# Altium schematic symbol library upbracing_library.SchLib: 157 symbols
Pins are listed as number, name and electrical type; pins without a type are passive.

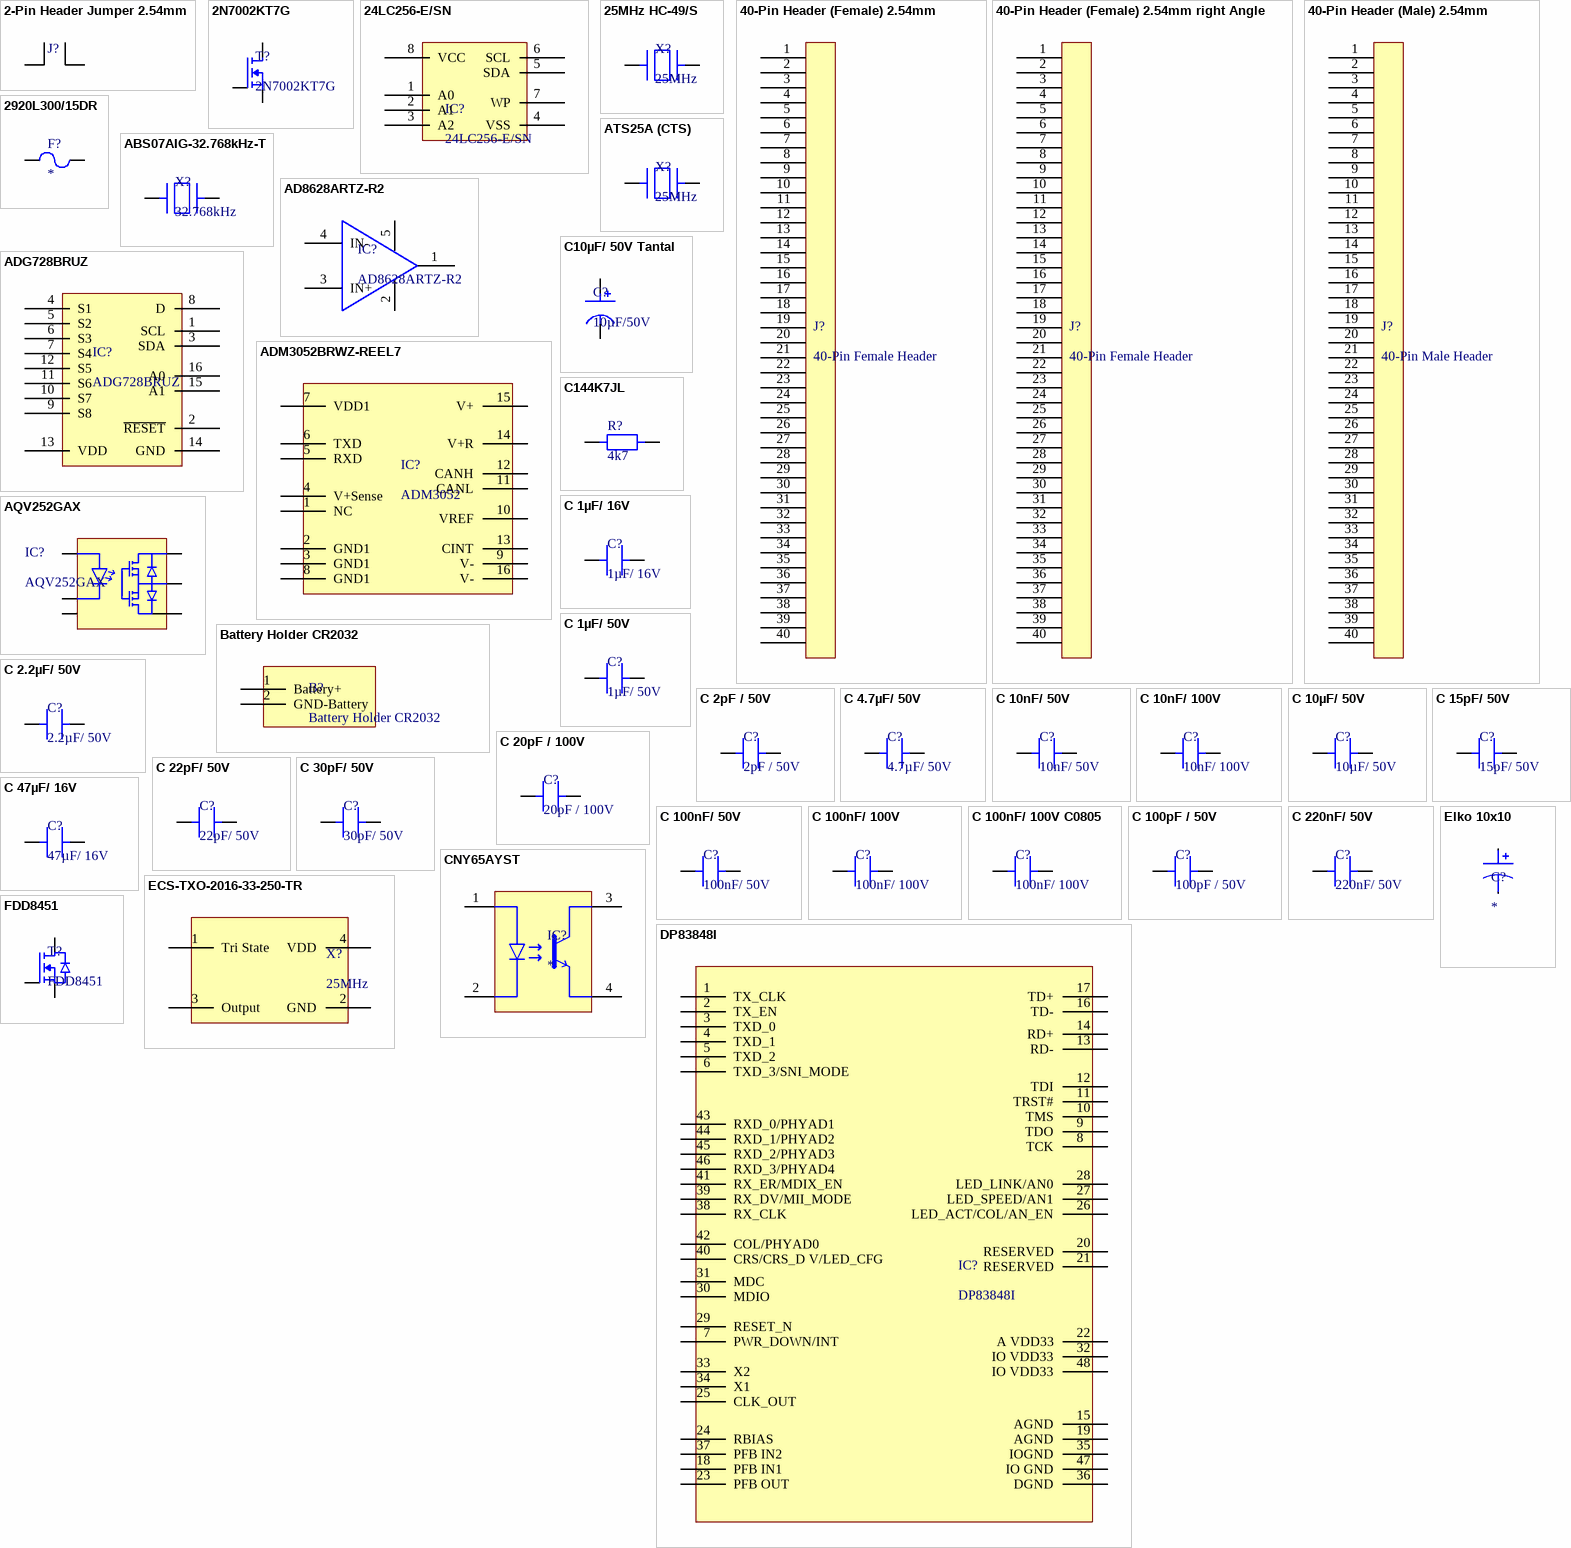
[diagram p0: symbols 2-Pin Header Jumper 2.54mm to FDD8451]

## 2-Pin Header Jumper 2.54mm
designator J?, comment 90131-1081  (value not drawn)
2Pin, 2,54mm
footprint 2-Pin Header Jumper 2.54mm (2Pin, 2.54mm)
pins: 1, 2

## 2N7002KT7G
designator T?
NMOS 100mA, 60V V_DS, R_DS,ON 2 Ohm, V_GSmax 20V
footprint SOT23-3 (SOT23, 3-Leads, Body 2,90x2,35mm, Pitch 0,95mm, IPC Medium Density)
pins: 1 G, 2 S, 3 D

## 24LC256-E/SN
designator IC?
EEPROM I2C, Microchip
footprint SOIC-8
pins: 1 A0, 2 A1, 3 A2, 4 VSS, 5 SDA, 6 SCL, 7 WP, 8 VCC

## 25MHz HC-49/S
designator X?, comment 25MHz
HC-49/S
footprint HC-49/S
pins: 1, 2

## 40-Pin Header (Female) 2.54mm
designator J?, comment 40-Pin Female Header
40-Pin Header (Female) 2.54mm; 2 x Row
footprint SSW-120-01-T-D SAMTEC (Female Pitch 2.54mm)
pins: 1, 2, 3, 4, 5, 6, 7, 8, 9, 10, 11, 12, 13, 14, 15, 16, 17, 18, 19, 20, 21, 22, 23, 24, 25, 26, 27, 28, 29, 30, 31, 32, 33, 34, 35, 36, 37, 38, 39, 40

## 40-Pin Header (Female) 2.54mm right Angle
designator J?, comment 40-Pin Female Header
40-Pin Header (Female) 2.54mm; 2 x Row, right Angle, SSW-120-02-T-D-RA-N
footprint SSW-120-02-T-D-RA-N SAMTEC (Female Pitch 2.54mm right angle)
pins: 1, 2, 3, 4, 5, 6, 7, 8, 9, 10, 11, 12, 13, 14, 15, 16, 17, 18, 19, 20, 21, 22, 23, 24, 25, 26, 27, 28, 29, 30, 31, 32, 33, 34, 35, 36, 37, 38, 39, 40

## 40-Pin Header (Male) 2.54mm
designator J?, comment 40-Pin Male Header
40-Pin Header (Male) 2.54mm; 2 x Row
footprint DIP40 Pitch 2.54mm
pins: 1, 2, 3, 4, 5, 6, 7, 8, 9, 10, 11, 12, 13, 14, 15, 16, 17, 18, 19, 20, 21, 22, 23, 24, 25, 26, 27, 28, 29, 30, 31, 32, 33, 34, 35, 36, 37, 38, 39, 40

## 2920L300/15DR
designator F?
PTC RESET FUSE 15V 3A 2920; Manufacturer 1: Littelfuse; Manufacturer Part Number 1: 2920L300/15DR; Max Current Rating: 40A; Trip Current: 5A; Time to Trip: 20s; Resistance: 48mR; Power Dissipation: 1.5W; Approvals: cULus; Supplier 1: Digi-Key; Stock 1: 4411; Pricing 1: 1=0,87000, 5=0,83800, 10=0,78500, 50=0,64940, 100=0,54120, 250=0,52768, 500=0,44650 (USD); RoHS: Yes; Case/Package: 2920; Case Code (Metric): 7351; Case Code (Imperial): 2920; Min Operating Temperature: -40°C; Max Operating Temperature: 85°C; Hold Current: 3A; Packaging: Tape and Reel; Termination: SMD/SMT; Package Quantity: 1500; Voltage Rating (DC): 15V; Current Rating: 40A; Operating Supply Voltage: 15V; Max Voltage Rating (DC): 15V; Working Voltage: 15V; Length: 7.36mm; Lead Free: Lead Free; REACH SVHC: No SVHC; ComponentLink1URL: https://datasheet.ciiva.com/1273/578244-1273824.pdf?src-supplier=Element14; ComponentLink1Description: https://datasheet.ciiva.com/1273/578244-1273824.pdf?src-supplier=Element14; ComponentLink2URL: https://datasheet.ciiva.com/28411/littelfuse-2920l-28411001.pdf?src-supplier=Element14; ComponentLink2Description: https://datasheet.ciiva.com/28411/littelfuse-2920l-28411001.pdf?src-supplier=Element14; ComponentLink3URL: https://datasheet.ciiva.com/326/littelfuse-ptc-2920l-326027.pdf?src-supplier=Digi-Key; ComponentLink3Description: https://datasheet.ciiva.com/326/littelfuse-ptc-2920l-326027.pdf?src-supplier=Digi-Key; ComponentLink4URL: https://datasheet.ciiva.com/326/littelfuse-ptc-2920l-326028.pdf?src-supplier=Digi-Key; ComponentLink4Description: https://datasheet.ciiva.com/326/littelfuse-ptc-2920l-326028.pdf?src-supplier=Digi-Key; ComponentLink5URL: https://datasheet.ciiva.com/326/littelfuse-ptc-2920l-326029.pdf?src-supplier=Digi-Key; ComponentLink5Description: https://datasheet.ciiva.com/326/littelfuse-ptc-2920l-326029.pdf?src-supplier=Digi-Key
footprint 2920_Littlefuse
pins: 1, 2

## ABS07AIG-32.768kHz-T
designator X?, comment 32.768kHz
32.768kHz Crystal, ABS07-166-32.768KHZ-T, 12.5pF
footprint NDK NX3215SA-32.768K-STD-MUA-8
pins: 1, 2

## AD8628ARTZ-R2
designator IC?
Präzisionsverstärker
footprint SOT23-5
pins: 1 OUT, 2 V-, 3 IN+, 4 IN-, 5 V+

## ADG728BRUZ
designator IC?
MUX I2C
footprint TSSOP-16
pins: 1 SCL, 2 ~{RESET}, 3 SDA, 4 S1, 5 S2, 6 S3, 7 S4, 8 D, 9 S8, 10 S7, 11 S6, 12 S5, 13 VDD, 14 GND, 15 A1, 16 A0

## ADM3052BRWZ-REEL7
designator IC?, comment ADM3052
CAN Transceiver Isolated
footprint SOP16 RW16 (ADM3052)
pins: 1 NC, 2 GND1, 3 GND1, 4 V+Sense, 5 RXD, 6 TXD, 7 VDD1, 8 GND1, 9 V-, 10 VREF, 11 CANL, 12 CANH, 13 CINT, 14 V+R, 15 V+, 16 V-

## AQV252GAX
designator IC?
Halbleiter Relais
footprint SMD DIP-6
pins: 1 A, 2 C, 3 NC, 4 D2, 5 S, 6 D1

## ATS25A (CTS)
designator X?, comment 25MHz
25MHz Crystal, 20pF, ATS25A CTS, HC-49/U,
footprint HC-49/U (ATS25A)
pins: 1, 2

## Battery Holder CR2032
designator B?
TE 796136-1
footprint Battery Holder TE 796136-1
pins: 1 Battery+, 2 GND-Battery

## C10µF/ 50V Tantal
designator C?, comment 10µF/50V
Tantal 7343, D-Casing
footprint Tantal 7343
pins: 1, 2

## C144K7JL
designator R?, comment 4k7
Precharge Widerstand
footprint C144K7JL
pins: 1, 2

## C 1µF/ 16V
designator C?, comment 1µF/ 16V
C0603/C0805
footprint C0805
footprint C0603
pins: 1, 2

## C 1µF/ 50V
designator C?, comment 1µF/ 50V
C0805
footprint C0805
pins: 1, 2

## C 2.2µF/ 50V
designator C?, comment 2.2µF/ 50V
C0805
footprint C0805
pins: 1, 2

## C 2pF / 50V
designator C?, comment 2pF / 50V
C0805
footprint C0805
pins: 1, 2

## C 4.7µF/ 50V
designator C?, comment 4.7µF/ 50V
C0805
footprint C0805
pins: 1, 2

## C 10nF/ 50V
designator C?, comment 10nF/ 50V
C1206
footprint C1206
pins: 1, 2

## C 10nF/ 100V
designator C?, comment 10nF/ 100V
C1206
footprint C1206
pins: 1, 2

## C 10µF/ 50V
designator C?, comment 10µF/ 50V
C1210
footprint C1210
pins: 1, 2

## C 15pF/ 50V
designator C?, comment 15pF/ 50V
C0805
footprint C0805
pins: 1, 2

## C 20pF / 100V
designator C?, comment 20pF / 100V
C0805
footprint C0805
pins: 1, 2

## C 22pF/ 50V
designator C?, comment 22pF/ 50V
C0805
footprint C0805
pins: 1, 2

## C 30pF/ 50V
designator C?, comment 30pF/ 50V
C0805
footprint C0805
pins: 1, 2

## C 47µF/ 16V
designator C?, comment 47µF/ 16V
C1210
footprint C1210
pins: 1, 2

## C 100nF/ 50V
designator C?, comment 100nF/ 50V
C0603/C0805
footprint C0805
footprint C0603
pins: 1, 2

## C 100nF/ 100V
designator C?, comment 100nF/ 100V
C1206
footprint C1206
pins: 1, 2

## C 100nF/ 100V C0805
designator C?, comment 100nF/ 100V
C0805
footprint C0805
pins: 1, 2

## C 100pF / 50V
designator C?, comment 100pF / 50V
C0805
footprint C0805
pins: 1, 2

## C 220nF/ 50V
designator C?, comment 220nF/ 50V
C0805
footprint C0805
pins: 1, 2

## CNY65AYST
designator IC?
Optocoupler
footprint CNY65AYST_Optocoupler
pins: 1, 2, 3, 4

## DP83848I
designator IC?
Ethernet IC, PHY, TI DP83848I
footprint LQFP48 (TI DP83848I) (Nochmal Überprüfen!)
pins: 1 TX_CLK, 2 TX_EN, 3 TXD_0, 4 TXD_1, 5 TXD_2, 6 TXD_3/SNI_MODE, 7 PWR_DOWN/INT, 8 TCK, 9 TDO, 10 TMS, 11 TRST#, 12 TDI, 13 RD-, 14 RD+, 15 AGND, 16 TD-, 17 TD+, 18 PFB IN1, 19 AGND, 20 RESERVED, 21 RESERVED, 22 A VDD33, 23 PFB OUT, 24 RBIAS, 25 CLK_OUT, 26 LED_ACT/COL/AN_EN, 27 LED_SPEED/AN1, 28 LED_LINK/AN0, 29 RESET_N, 30 MDIO, 31 MDC, 32 IO VDD33, 33 X2, 34 X1, 35 IOGND, 36 DGND, 37 PFB IN2, 38 RX_CLK, 39 RX_DV/MII_MODE, 40 CRS/CRS_D V/LED_CFG, 41 RX_ER/MDIX_EN, 42 COL/PHYAD0, 43 RXD_0/PHYAD1, 44 RXD_1/PHYAD2, 45 RXD_2/PHYAD3, 46 RXD_3/PHYAD4, 47 IO GND, 48 IO VDD33

## ECS-TXO-2016-33-250-TR
designator X?, comment 25MHz
Oscillator 25MHz
footprint TCXO Oscillators ECS-TXO-2016-1601065
pins: 1 Tri State, 2 GND, 3 Output, 4 VDD

## Elko 10x10
designator C?
footprint Elko 10x10 (Aluminum Electrolytic Capacitor, Body 10,30x10,30x10,00mm, IPC Low Density)
pins: 1 +, 2 -

## FDD8451
designator T?
NMOS
footprint DPAK228P990X238-3N (D-PAK, 3-Pads, Body 6,20x6,72mm (max), IPC Medium Density); pin to pad 2>3 3>4
pins: 1 G, 2 S, 3 D

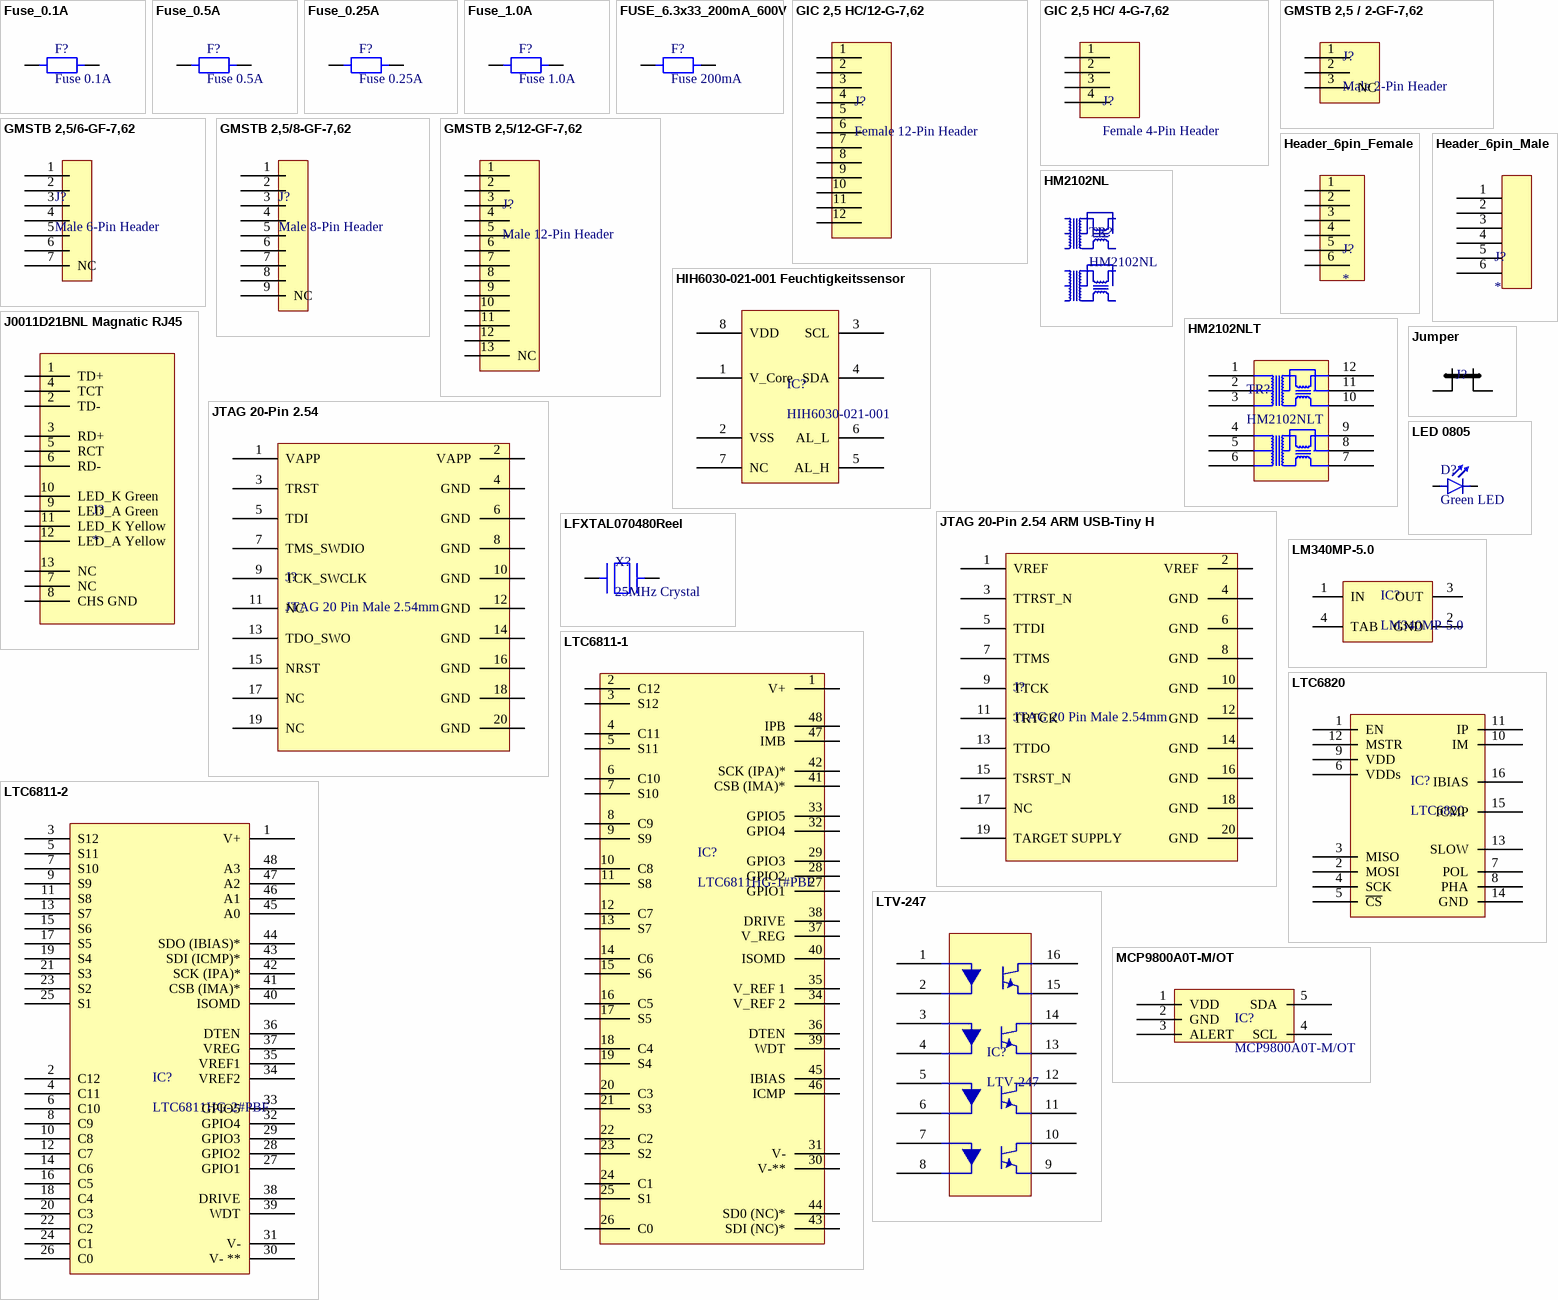
[diagram p1: symbols Fuse_0.1A to MCP9800A0T-M/OT]

## Fuse_0.1A
designator F?, comment Fuse 0.1A
LittleFuse 0451.100MRL
footprint Fuse_SMD-SF 0.25A
pins: 1, 2

## Fuse_0.5A
designator F?, comment Fuse 0.5A
Reichelt : SMD-SF 0,5A
footprint Fuse_SMD-SF 0.25A
pins: 1, 2

## Fuse_0.25A
designator F?, comment Fuse 0.25A
Reichelt : SMD-SF 0,25A
footprint Fuse_SMD-SF 0.25A
pins: 1, 2

## Fuse_1.0A
designator F?, comment Fuse 1.0A
LittleFuse 0451001.NRL
footprint Fuse_SMD-SF 0.25A
pins: 1, 2

## FUSE_6.3x33_200mA_600V
designator F?, comment Fuse 200mA
Fuse: 0ADBC0200-BE / Clips: 8040.0003
footprint FUSE_HOLDER_6.8x33 (0ADBC0200-BE)
pins: 1, 2

## GIC 2,5 HC/12-G-7,62
designator J?, comment Female 12-Pin Header
GIC 2,5 HC/12-G-7,62 -Phoenix 1745881
footprint GIC 2,5 HC/12-G-7,62 - 1745881
pins: 1, 2, 3, 4, 5, 6, 7, 8, 9, 10, 11, 12

## GIC 2,5 HC/ 4-G-7,62
designator J?, comment Female 4-Pin Header
GIC 2,5 HC/ 4-G-7,62
footprint GIC 2,5 HC/ 4-G-7,62 (Phoenix 630V 4pol)
pins: 1, 2, 3, 4

## GMSTB 2,5 / 2-GF-7,62
designator J?, comment Male 2-Pin Header
Do not connect Pin 3! Phoenix 1806229
footprint GMSTB 2,5/ 2-GF-7,62 - 1806229
pins: 1, 2, 3 NC "Not Connect"

## GMSTB 2,5/6-GF-7,62
designator J?, comment Male 6-Pin Header
Do not connect Pin 7, Phoenix 1806261
footprint GMSTB 2,5/6-GF-7,62
pins: 1, 2, 3, 4, 5, 6, 7 NC

## GMSTB 2,5/8-GF-7,62
designator J?, comment Male 8-Pin Header
Do not connect Pin 9! Phoenix 1806287
footprint GMSTB 2,5/ 8-GF-7.62
pins: 1, 2, 3, 4, 5, 6, 7, 8, 9 NC

## GMSTB 2,5/12-GF-7,62
designator J?, comment Male 12-Pin Header
Do not connect Pin 13! Phoenix 1806326
footprint GMSTB 2,5/12-GF-7,62 1806326
pins: 1, 2, 3, 4, 5, 6, 7, 8, 9, 10, 11, 12, 13 NC

## Header_6pin_Female
designator J?
footprint Header_6pin_female
pins: 1, 2, 3, 4, 5, 6

## Header_6pin_Male
designator J?
footprint Header_6pin_male
pins: 1, 2, 3, 4, 5, 6

## HIH6030-021-001 Feuchtigkeitssensor
designator IC?, comment HIH6030-021-001
Feuchtigkeit und Temperatursensor
footprint SOIC-8
pins: 1 V_Core, 2 VSS, 3 SCL, 4 SDA, 5 AL_H, 6 AL_L, 7 NC, 8 VDD

## HM2102NL
designator TR?
Isolations Transformator
footprint SOP12

## HM2102NLT
designator TR?
Isolations Transformator
footprint SOP12
pins: 1, 2, 3, 4, 5, 6, 7, 8, 9, 10, 11, 12

## J0011D21BNL Magnatic RJ45
designator J?
RJ45 Magnatic,
footprint J0011D21BNL (Magnatic RJ45)
pins: 1 TD+, 2 TD-, 3 RD+, 4 TCT, 5 RCT, 6 RD-, 7 NC, 8 CHS GND, 9 LED_A Green, 10 LED_K Green, 11 LED_K Yellow, 12 LED_A Yellow, 13 NC

## JTAG 20-Pin 2.54
designator J?, comment JTAG 20 Pin Male 2.54mm
footprint JTAG 20-Pin
pins: 1 VAPP "Target VCC", 2 VAPP "Target VCC", 3 TRST "JTAG TRST", 4 GND, 5 TDI, 6 GND, 7 TMS_SWDIO, 8 GND, 9 TCK_SWCLK, 10 GND, 11 NC, 12 GND, 13 TDO_SWO, 14 GND, 15 NRST, 16 GND, 17 NC, 18 GND, 19 NC, 20 GND

## JTAG 20-Pin 2.54 ARM USB-Tiny H
designator J?, comment JTAG 20 Pin Male 2.54mm
footprint JTAG 20-Pin
pins: 1 VREF "Target VCC", 2 VREF "Target VCC", 3 TTRST_N "JTAG TRST", 4 GND, 5 TTDI, 6 GND, 7 TTMS, 8 GND, 9 TTCK, 10 GND, 11 TRTCK, 12 GND, 13 TTDO, 14 GND, 15 TSRST_N, 16 GND, 17 NC, 18 GND, 19 TARGET SUPPLY, 20 GND

## Jumper
designator J?, comment 90131-1081  (value not drawn)
2Pin, 2,54mm
footprint Jumper (2Pin, 2.54mm)
pins: 1, 2

## LED 0805
designator D?, comment Green LED
Status LED
footprint LED_0805
pins: 1, 2

## LFXTAL070480Reel
designator X?, comment 25MHz Crystal
LFXTAL070480Reel, HC-49/S, 18pF, ESR 40Ohm, DL = 500µW
footprint HC-49/S
pins: 1, 2

## LM340MP-5.0
designator IC?
Linearregler 12V -> 5V
footprint SOT-223-4
pins: 1 IN (power), 2 GND (power), 3 OUT (power), 4 TAB (power)

## LTC6811-1
designator IC?, comment LTC6811HG-1#PBF
Battery Monitor IC
footprint SSOP48-LTC6811
pins: 1 V+, 2 C12, 3 S12, 4 C11, 5 S11, 6 C10, 7 S10, 8 C9, 9 S9, 10 C8, 11 S8, 12 C7, 13 S7, 14 C6, 15 S6, 16 C5, 17 S5, 18 C4, 19 S4, 20 C3, 21 S3, 22 C2, 23 S2, 24 C1, 25 S1, 26 C0, 27 GPIO1, 28 GPIO2, 29 GPIO3, 30 V-**, 31 V-, 32 GPIO4, 33 GPIO5, 34 V_REF 2, 35 V_REF 1, 36 DTEN, 37 V_REG, 38 DRIVE, 39 WDT, 40 ISOMD, 41 CSB (IMA)*, 42 SCK (IPA)*, 43 SDI (NC)*, 44 SD0 (NC)*, 45 IBIAS, 46 ICMP, 47 IMB, 48 IPB

## LTC6811-2
designator IC?, comment LTC6811HG-2#PBF
Batterie Monitor IC
footprint SSOP48-LTC6811
pins: 1 V+, 2 C12, 3 S12, 4 C11, 5 S11, 6 C10, 7 S10, 8 C9, 9 S9, 10 C8, 11 S8, 12 C7, 13 S7, 14 C6, 15 S6, 16 C5, 17 S5, 18 C4, 19 S4, 20 C3, 21 S3, 22 C2, 23 S2, 24 C1, 25 S1, 26 C0, 27 GPIO1, 28 GPIO2, 29 GPIO3, 30 V- **, 31 V-, 32 GPIO4, 33 GPIO5, 34 VREF2, 35 VREF1, 36 DTEN, 37 VREG, 38 DRIVE, 39 WDT, 40 ISOMD, 41 CSB (IMA)*, 42 SCK (IPA)*, 43 SDI (ICMP)*, 44 SDO (IBIAS)*, 45 A0, 46 A1, 47 A2, 48 A3

## LTC6820
designator IC?
isoSPI IC for BMS Slave, LTC6820HMS#PBF
footprint MSOP-16 (LTC6820)
pins: 1 EN, 2 MOSI, 3 MISO, 4 SCK, 5 ~{CS}, 6 VDDs, 7 POL, 8 PHA, 9 VDD, 10 IM, 11 IP, 12 MSTR, 13 SLOW, 14 GND, 15 ICMP, 16 IBIAS

## LTV-247
designator IC?
Transistor Ausgangsoptokoppler
footprint SOP-16 (LTV-247)
pins: 1, 2, 3, 4, 5, 6, 7, 8, 9, 10, 11, 12, 13, 14, 15, 16

## MCP9800A0T-M/OT
designator IC?
Temperatursensor I2C
footprint SOT-23A-5
pins: 1 VDD, 2 GND, 3 ALERT, 4 SCL, 5 SDA

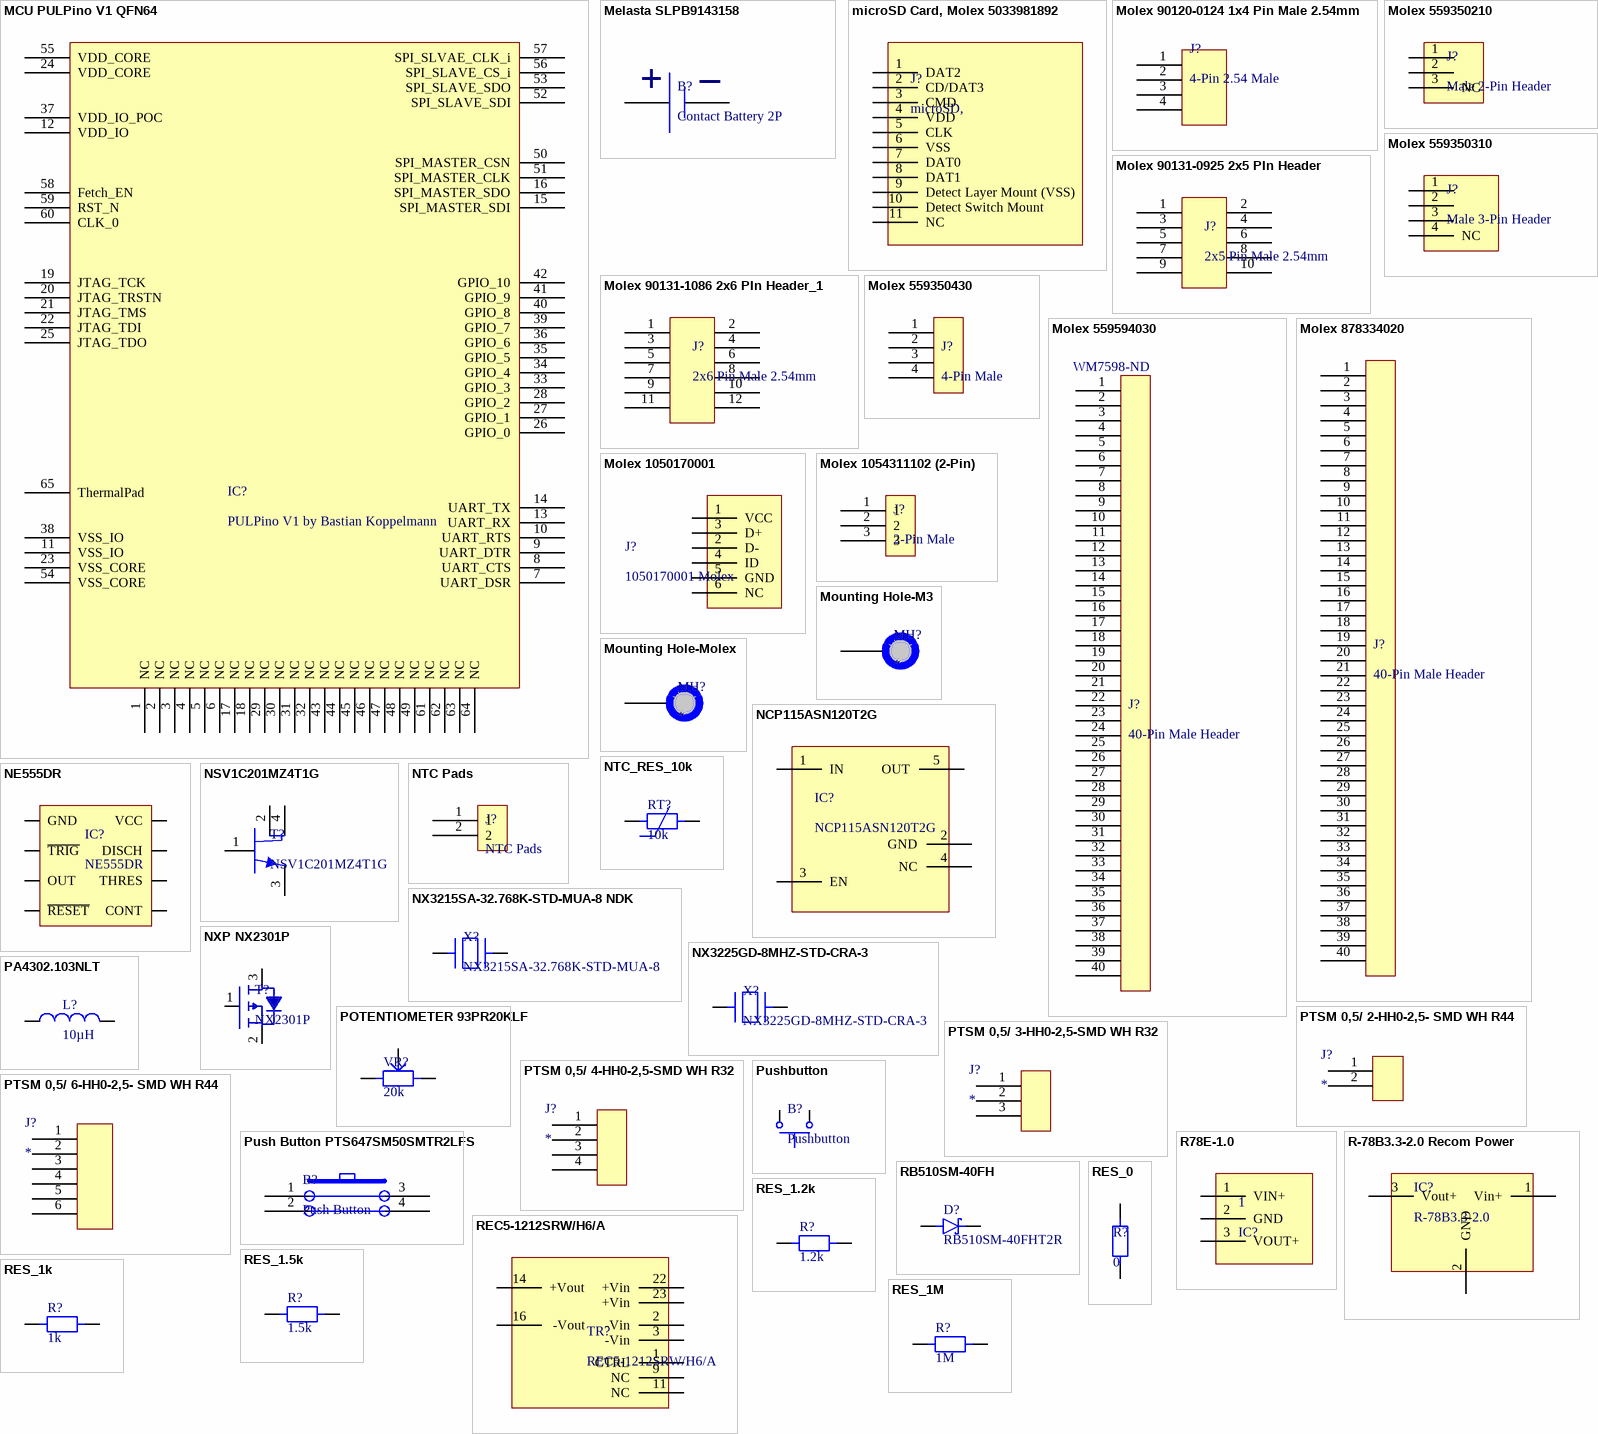
[diagram p2: symbols MCU PULPino V1 QFN64 to RES_1M]

## MCU PULPino V1 QFN64
designator IC?, comment PULPino V1 by Bastian Koppelmann
Version 1 PULPino by Bastian Koppelmann
footprint MQFN 64-Lead 9mm P=0.5mm
pins: 1 NC, 2 NC, 3 NC, 4 NC, 5 NC, 6 NC, 7 UART_DSR, 8 UART_CTS, 9 UART_DTR, 10 UART_RTS, 11 VSS_IO, 12 VDD_IO, 13 UART_RX, 14 UART_TX, 15 SPI_MASTER_SDI, 16 SPI_MASTER_SDO, 17 NC, 18 NC, 19 JTAG_TCK, 20 JTAG_TRSTN, 21 JTAG_TMS, 22 JTAG_TDI, 23 VSS_CORE, 24 VDD_CORE, 25 JTAG_TDO, 26 GPIO_0, 27 GPIO_1, 28 GPIO_2, 29 NC, 30 NC, 31 NC, 32 NC, 33 GPIO_3, 34 GPIO_4, 35 GPIO_5, 36 GPIO_6, 37 VDD_IO_POC, 38 VSS_IO, 39 GPIO_7, 40 GPIO_8, 41 GPIO_9, 42 GPIO_10, 43 NC, 44 NC, 45 NC, 46 NC, 47 NC, 48 NC, 49 NC, 50 SPI_MASTER_CSN, 51 SPI_MASTER_CLK, 52 SPI_SLAVE_SDI, 53 SPI_SLAVE_SDO, 54 VSS_CORE, 55 VDD_CORE, 56 SPI_SLAVE_CS_i, 57 SPI_SLVAE_CLK_i, 58 Fetch_EN, 59 RST_N, 60 CLK_0, 61 NC, 62 NC, 63 NC, 64 NC, 65 ThermalPad

## Melasta SLPB9143158
designator B?, comment Contact Battery 2P
footprint Melasta SLPB9143158 (144S-2P)
pins: 1 +, 2 -
text: _

## microSD Card, Molex 5033981892
designator J?, comment microSD,
Do not connect Pin 11! / Molex 5033981892. WHen SPI using set DAT1 and DAT2 high
footprint MICRO-SD Molex 5033981892 (Micro SD Card)
pins: 1 DAT2, 2 CD/DAT3, 3 CMD, 4 VDD, 5 CLK, 6 VSS, 7 DAT0, 8 DAT1, 9 Detect Layer Mount (VSS), 10 Detect Switch Mount, 11 NC

## Molex 90120-0124 1x4 Pin Male 2.54mm
designator J?, comment 4-Pin 2.54 Male
footprint DIP4 4X1 Pitch 2.54mm
pins: 1, 2, 3, 4

## Molex 90131-0925 2x5 PIn Header
designator J?, comment 2x5 Pin Male 2.54mm
footprint DIP10 2X5 Pitch 2.54mm
pins: 1, 2, 3, 4, 5, 6, 7, 8, 9, 10

## Molex 90131-1086 2x6 PIn Header_1
designator J?, comment 2x6 Pin Male 2.54mm
footprint DIP12 2X6 Pitch 2.54mm
pins: 1, 2, 3, 4, 5, 6, 7, 8, 9, 10, 11, 12

## Molex 559350210
designator J?, comment Male 2-Pin Header
Do not connect Pin 3!           Molex 559350210
footprint Molex 559350210
pins: 1, 2, 3 NC "Not Connect"

## Molex 559350310
designator J?, comment Male 3-Pin Header
Do not connect Pin 4!           Molex 559350310
footprint Molex 559350310 Pitch 2.0mm
pins: 1, 2, 3 "Not Connect", 4 NC

## Molex 559350430
designator J?, comment 4-Pin Male
footprint Molex 559350430
pins: 1, 2, 3, 4

## Molex 559594030
designator J?, comment 40-Pin Male Header  Supplier Part Number 1: WM7598-ND
Manufacturer 1: Molex; Manufacturer Part Number 1: 55959-4030; Number of Positions: 40; Current Rating: 3A; Voltage Rating: 250V; Insulation Resistance: 1GR; Pitch: 2mm; Glow Wire Compliant: Non-compliant; Supplier 1: Digi-Key; Stock 1: 1337; Pricing 1: 1=2,19000, 10=1,99000, 200=1,70585, 600=1,42153, 1000=1,21845, 5000=1,08036 (USD); RoHS: Yes; Mount: Through Hole; Contact Plating: Tin; Contact Material: Brass; Color: White; Housing Material: Polyester; Min Operating Temperature: -25°C; Max Operating Temperature: 85°C; Number of Rows: 2; Packaging: Tray; Termination: Solder; Number of Contacts: 40; Orientation: Right Angle; Package Quantity: 200; Gender: Male; Voltage Rating (DC): 250V; Number of Circuits: 40; Radiation Hardening: No; REACH SVHC: No SVHC; Flammability Rating: UL94 V-0; ComponentLink1URL: https://datasheet.ciiva.com/5157/0559594030-pcb-headers-171226-5157421.pdf?src-supplier=Mouser; ComponentLink1Description: https://datasheet.ciiva.com/5157/0559594030-pcb-headers-171226-5157421.pdf?src-supplier=Mouser; ComponentLink2URL: https://datasheet.ciiva.com/30123/311110559594030-pcb-headers-30123615.pdf?src-supplier=Onlinecomponents.com; ComponentLink2Description: https://datasheet.ciiva.com/30123/311110559594030-pcb-headers-30123615.pdf?src-supplier=Onlinecomponents.com; ComponentLink3URL: https://datasheet.ciiva.com/16688/0559594030-pcb-headers-16688301.pdf?src-supplier=Avnet+Europe; ComponentLink3Description: https://datasheet.ciiva.com/16688/0559594030-pcb-headers-16688301.pdf?src-supplier=Avnet+Europe; ComponentLink4URL: https://datasheet.ciiva.com/10072/0559594030-pcb-headers-10072199.pdf?src-supplier=Avnet; ComponentLink4Description: https://datasheet.ciiva.com/10072/0559594030-pcb-headers-10072199.pdf?src-supplier=Avnet
footprint Molex 559594030
pins: 1, 2, 3, 4, 5, 6, 7, 8, 9, 10, 11, 12, 13, 14, 15, 16, 17, 18, 19, 20, 21, 22, 23, 24, 25, 26, 27, 28, 29, 30, 31, 32, 33, 34, 35, 36, 37, 38, 39, 40

## Molex 878334020
designator J?, comment 40-Pin Male Header
footprint Molex 878334020
pins: 1, 2, 3, 4, 5, 6, 7, 8, 9, 10, 11, 12, 13, 14, 15, 16, 17, 18, 19, 20, 21, 22, 23, 24, 25, 26, 27, 28, 29, 30, 31, 32, 33, 34, 35, 36, 37, 38, 39, 40

## Molex 1050170001
designator J?, comment 1050170001 Molex
mircoUSB Jack
footprint microUSB Molex 1050170001
pins: 1 VCC, 2 D-, 3 D+, 4 ID, 5 GND, 6 NC

## Molex 1054311102 (2-Pin)
designator J?, comment 2-Pin Male
Do not connect Pin3 !
footprint Molex 1054311102
pins: 1, 2, 3

## Mounting Hole-M3
designator MH?  (no BOM)
footprint Mounting Hole M3 (Diameter 3.5mm, 5.7mm)
pins: 1

## Mounting Hole-Molex
designator MH?  (no BOM)
footprint Mounting Hole Molex (Diameter 3.2mm,17mm)
pins: 1

## NCP115ASN120T2G
designator IC?
Input 1.7V-5.5V, Ouput 1.2V
footprint TSOP-5
pins: 1 IN, 2 GND, 3 EN, 4 NC, 5 OUT

## NE555DR
designator IC?
555-Timer
footprint SOIC-8
pins: 1 GND, 2 ~{TRIG}, 3 OUT, 4 ~{RESET}, 5 CONT, 6 THRES, 7 DISCH, 8 VCC

## NSV1C201MZ4T1G
designator T?
NPN-Transisitor
footprint SOT-223-4
pins: 1 B, 2 C, 3 E, 4 C

## NTC Pads
designator J?
footprint 2-Pads NTC
pins: 1, 2

## NTC_RES_10k
designator RT?, comment 10k
0805
footprint R0805
pins: 1, 2

## NX3215SA-32.768K-STD-MUA-8 NDK
designator X?, comment NX3215SA-32.768K-STD-MUA-8
CRYSTAL 32.7680KHZ 12.5PF SMD
footprint NDK NX3215SA-32.768K-STD-MUA-8
pins: 1, 2

## NX3225GD-8MHZ-STD-CRA-3
designator X?
CRYSTAL 8 MHz 8pF SMD
footprint NX3225GD-8MHZ-STD-CRA-3 NDK
pins: 1, 2

## NXP NX2301P
designator T?, comment NX2301P
PMOS
footprint TO-236AB NXP
pins: 1 G, 2 S, 3 D

## PA4302.103NLT
designator L?, comment 10µH
Choke PA4302.103NLT Pulse
footprint Choke 0805  (PA4302.103NLT, Pulse)
pins: 1, 2

## POTENTIOMETER 93PR20KLF
designator VR?, comment 20k
93PR20KLF 20k
footprint POTENTIOMETER 93PR20KLF (TT ELECTRONICS / BI TECHNOLOGIES 93PR20KLF)
pins: 1, 2, 3

## PTSM 0,5/ 2-HH0-2,5- SMD WH R44
designator J?
Stecker 2pol_160V_Phoenix Contact
footprint PTSM 0,5/ 2-HH0-2,5-SMD WH R32 (Stecker 2pol_160V_Phoenix Contact)
pins: 1, 2

## PTSM 0,5/ 3-HH0-2,5-SMD WH R32
designator J?
Stecker 3pol_160V_Phoenix Contact
footprint PTCM 0,5/ 3-PL-2,5 WH (Stecker 3pol_160V_Phoenix COntact)
pins: 1, 2, 3

## PTSM 0,5/ 4-HH0-2,5-SMD WH R32
designator J?
Stecker 4pol_160V_Phoenix Contact
footprint PTSM 0,5/ 4-HH0-2,5- SMD WH R32 (Stecker 4pol_160V_Phoenix Contact)
pins: 1, 2, 3, 4

## PTSM 0,5/ 6-HH0-2,5- SMD WH R44
designator J?
Stecker 6pol_160V_Phoenix Contact
footprint PTSM 0,5/ 6-HH0-2,5- SMD WH R44 (Stecker 6pol_160V_Phoenix Contact)
pins: 1, 2, 3, 4, 5, 6

## Push Button PTS647SM50SMTR2LFS
designator B?, comment Push Button
PTS647SM50SMTR2LFS
footprint PUSH Switch
pins: 1, 2, 3 1, 4 2

## Pushbutton
designator B?
footprint Jumper (2Pin, 2.54mm)
pins: 1, 2

## R78E-1.0
designator 1, comment IC?
DC DC Converter 3.3V Out. VIN 7-28V
footprint R78E-1.0 (DC Dc Converter)
pins: 1 VIN+, 2 GND, 3 VOUT+

## R-78B3.3-2.0 Recom Power
designator IC?, comment R-78B3.3-2.0
Recom Power R-78B3.3-2.0
footprint RECOM Power R-78B3.3-2.0
pins: 1 Vin+, 2 GND, 3 Vout+

## RB510SM-40FH
designator D?, comment RB510SM-40FHT2R
Schottky Diode
footprint SOD-523-2
pins: 1 A, 2 K

## REC5-1212SRW/H6/A
designator TR?
Recom REC5-1212SRW/H6/A
footprint DIP24 DCDC
pins: 1 CTRL, 2 -Vin, 3 -Vin, 9 NC, 11 NC, 14 +Vout, 16  -Vout, 22 +Vin, 23 +Vin

## RES_0
designator R?, comment 0
0603/0805
footprint R0805
footprint R0603
pins: 1, 2

## RES_1.2k
designator R?, comment 1.2k
0805
footprint R0805
pins: 1, 2

## RES_1.5k
designator R?, comment 1.5k
0805
footprint R0805
pins: 1, 2

## RES_1k
designator R?, comment 1k
0805
footprint R0805
pins: 1, 2

## RES_1M
designator R?, comment 1M
0805
footprint R0805
pins: 1, 2

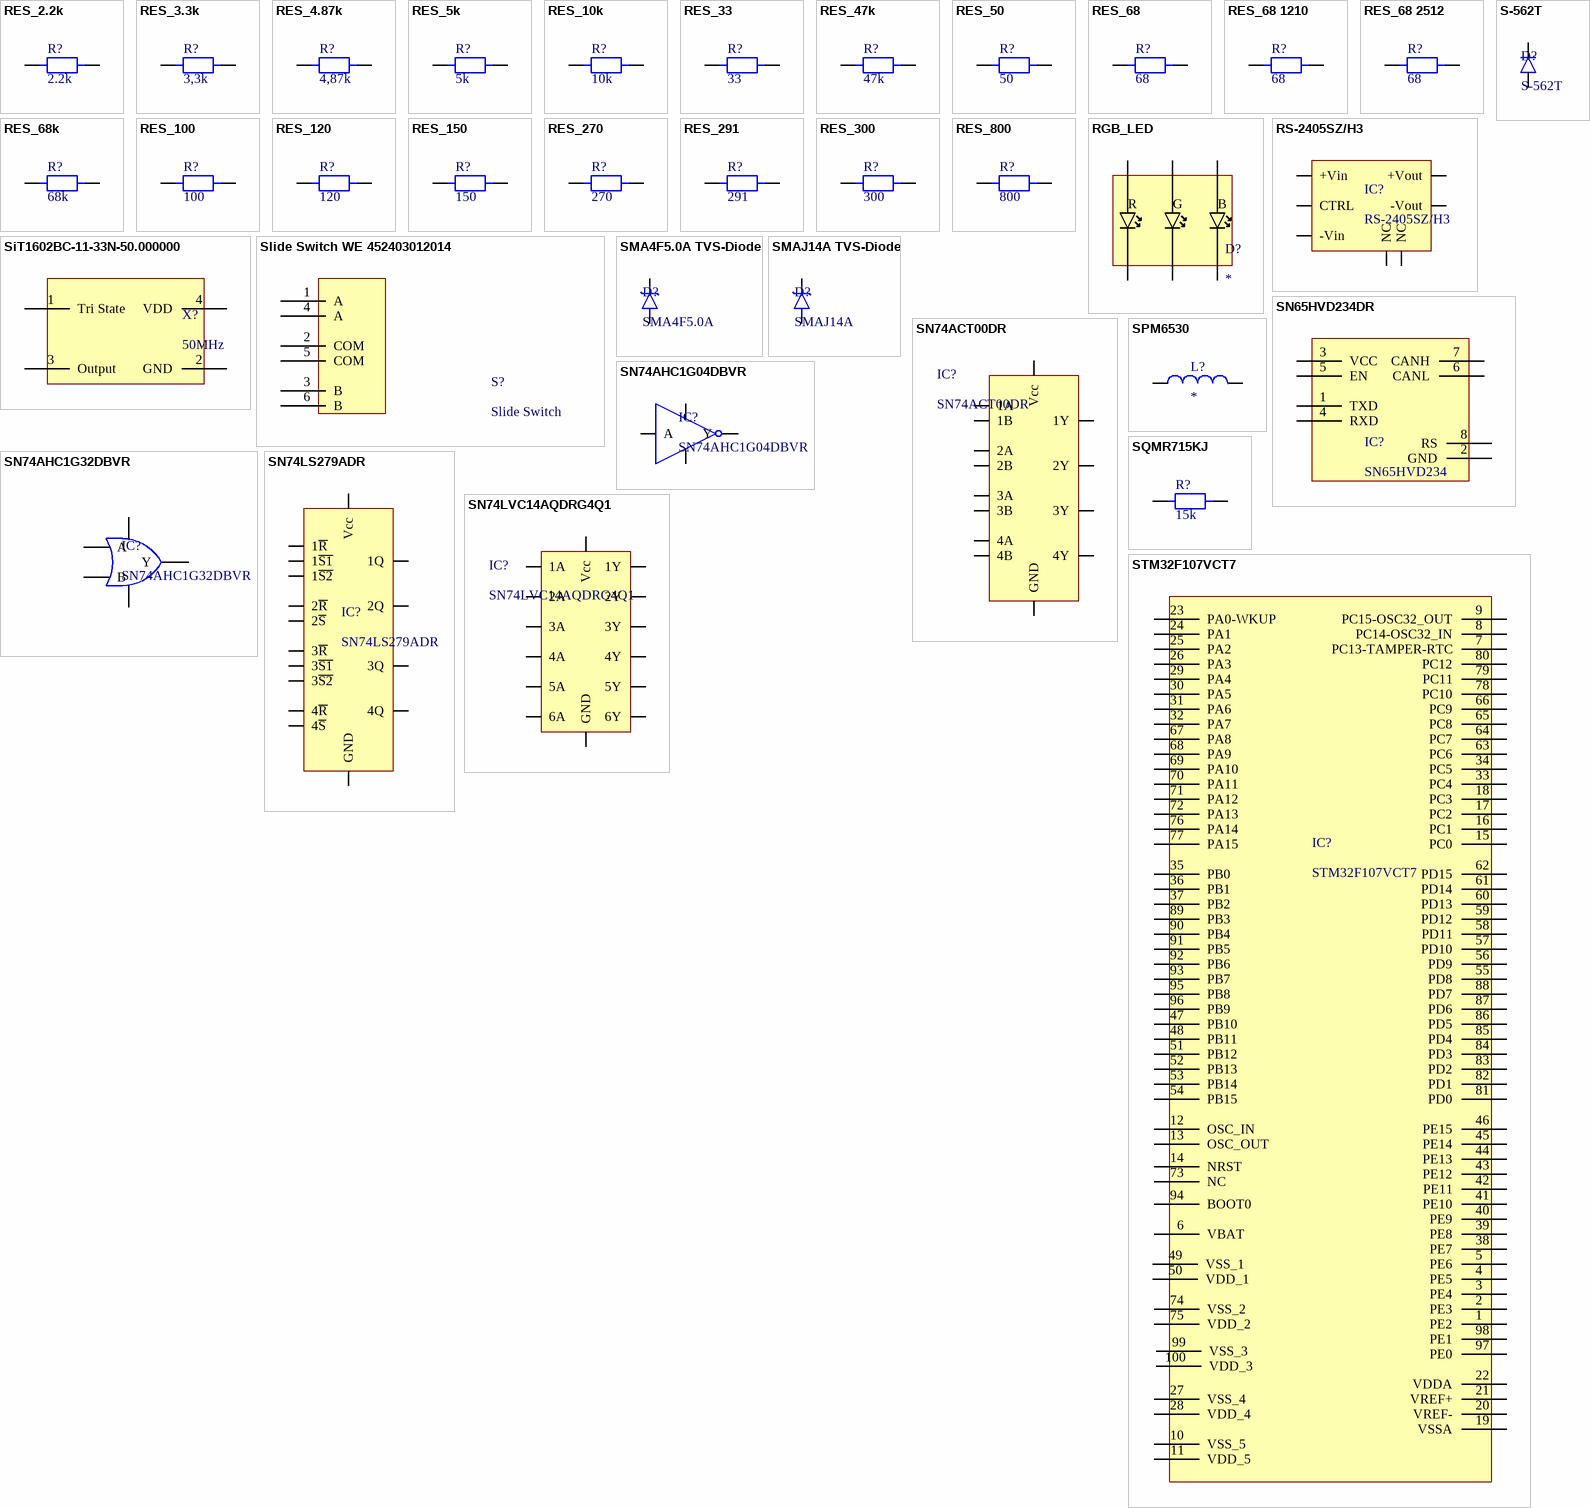
[diagram p3: symbols RES_2.2k to STM32F107VCT7]

## RES_2.2k
designator R?, comment 2.2k
0805
footprint R0805
pins: 1, 2

## RES_3.3k
designator R?, comment 3,3k
0805
footprint R0805
pins: 1, 2

## RES_4.87k
designator R?, comment 4,87k
0805
footprint R0805
pins: 1, 2

## RES_5k
designator R?, comment 5k
0603/0805
footprint R0805
footprint R0603
pins: 1, 2

## RES_10k
designator R?, comment 10k
0805
footprint R0805
footprint R0603
pins: 1, 2

## RES_33
designator R?, comment 33
0805
footprint R0805
pins: 1, 2

## RES_47k
designator R?, comment 47k
0805
footprint R0805
pins: 1, 2

## RES_50
designator R?, comment 50
0805
footprint R0805
pins: 1, 2

## RES_68
designator R?, comment 68
0805
footprint R0805
pins: 1, 2

## RES_68 1210
designator R?, comment 68
1210
footprint R1210 (CRGP1210)
pins: 1, 2

## RES_68 2512
designator R?, comment 68
2512, 1W
footprint R2512 (AC2512)
pins: 1, 2

## RES_68k
designator R?, comment 68k
0805
footprint R0805
pins: 1, 2

## RES_100
designator R?, comment 100
0603/0805
footprint R0805
footprint R0603
pins: 1, 2

## RES_120
designator R?, comment 120
0805
footprint R0805
pins: 1, 2

## RES_150
designator R?, comment 150
0603/0805
footprint R0805
footprint R0603
pins: 1, 2

## RES_270
designator R?, comment 270
0805
footprint R0805
pins: 1, 2

## RES_291
designator R?, comment 291
0805
footprint R0805
pins: 1, 2

## RES_300
designator R?, comment 300
2512, 1W
footprint R2512 (AC2512)
pins: 1, 2

## RES_800
designator R?, comment 800
0805
footprint R0805
pins: 1, 2

## RGB_LED
designator D?
footprint RGB
pins: 1 BK, 2 BA, 3 RK, 4 RA, 5 GK, 6 GA
text: R; G; B

## RS-2405SZ/H3
designator IC?
Isolated DC/DC 9-36V / 5V
footprint RS-2405SZ/H3 (Isolated DC/DC)
pins: 1 -Vin, 2 +Vin, 3 CTRL, 5 NC, 6 +Vout, 7 -Vout, 8 NC

## S-562T
designator D?
Current Regulating Diode 5.6mA
footprint SOD-323 (Molded Diode, 2-Leads, Body 2,60x1,60mm, IPC Medium Density); pin to pad 1>2 2>1
pins: 1, 2

## SiT1602BC-11-33N-50.000000
designator X?, comment 50MHz
Oscillator 50MHz. Pin 1 NC
footprint QFN 2520 SiT1602 Oscillators 2.5x2.0mm
pins: 1 Tri State, 2 GND, 3 Output, 4 VDD

## Slide Switch WE 452403012014
designator S?, comment Slide Switch
Slide Switch, WE 452403012014
footprint Slide Switch WE 452403012014
pins: 1 A, 2 COM, 3 B, 4 A, 5 COM, 6 B

## SMA4F5.0A TVS-Diode
designator D?, comment SMA4F5.0A
TVS Diode
footprint DO-214AC
pins: 1, 2

## SMAJ14A TVS-Diode
designator D?, comment SMAJ14A
TVS Diode
footprint DO-214AC
pins: 1, 2

## SN65HVD234DR
designator IC?, comment SN65HVD234
CAN Transceiver 1.0MBit/s, not isolatet
footprint SOIC-8
pins: 1 TXD, 2 GND, 3 VCC, 4 RXD, 5 EN, 6 CANL, 7 CANH, 8 RS

## SN74ACT00DR
designator IC?
4 NAND Gates
footprint SOIC-14 (SOIC, 14-Leads, Body 8,65x3,90mm, Pitch 1,27mm, IPC Medium Density)
pins: 1 1A, 2 1B, 3 1Y, 4 2A, 5 2B, 6 2Y, 7 GND, 8 3Y, 9 3A, 10 3B, 11 4Y, 12 4A, 13 4B, 14 Vcc

## SN74AHC1G04DBVR
designator IC?
Inverter
footprint SOT-23A-5
pins: 2 A, 3 GND, 4 Y, 5 VCC

## SN74AHC1G32DBVR
designator IC?
Or Gate
footprint SOT-23A-5
pins: 1 A, 2 B, 3 GND, 4 Y, 5 VCC

## SN74LS279ADR
designator IC?
Quad SR NAND Latch
footprint SOP-16 (LTV-247)
pins: 1 1~{R}, 2 1~{S1}, 3 1~{S2}, 4 1Q, 5 2~{R}, 6 2~{S}, 7 2Q, 8 GND, 9 3Q, 10 3~{R}, 11 3~{S1}, 12 3~{S2}, 13 4Q, 14 4~{R}, 15 4~{S}, 16 Vcc

## SN74LVC14AQDRG4Q1
designator IC?
Hex Inverter
footprint SOIC-14 (SOIC, 14-Leads, Body 8,65x3,90mm, Pitch 1,27mm, IPC Medium Density)
pins: 1 1A, 2 1Y, 3 2A, 4 2Y, 5 3A, 6 3Y, 7 GND, 8 4Y, 9 4A, 10 5Y, 11 5A, 12 6Y, 13 6A, 14 Vcc

## SPM6530
designator L?
Spule SPM6530
footprint SPM6530
pins: 1, 2

## SQMR715KJ
designator R?, comment 15k
TSMP Widerstand
footprint SQMR715KJ
pins: 1, 2

## STM32F107VCT7
designator IC?
STM32F107VCT7 MCU
footprint LQFP100-STM32F107
pins: 1 PE2, 2 PE3, 3 PE4, 4 PE5, 5 PE6, 6 VBAT, 7 PC13-TAMPER-RTC, 8 PC14-OSC32_IN, 9 PC15-OSC32_OUT, 10 VSS_5, 11 VDD_5, 12 OSC_IN, 13 OSC_OUT, 14 NRST, 15 PC0, 16 PC1, 17 PC2, 18 PC3, 19 VSSA, 20 VREF-, 21 VREF+, 22 VDDA, 23 PA0-WKUP, 24 PA1, 25 PA2, 26 PA3, 27 VSS_4, 28 VDD_4, 29 PA4, 30 PA5, 31 PA6, 32 PA7, 33 PC4, 34 PC5, 35 PB0, 36 PB1, 37 PB2, 38 PE7, 39 PE8, 40 PE9, 41 PE10, 42 PE11, 43 PE12, 44 PE13, 45 PE14, 46 PE15, 47 PB10, 48 PB11, 49 VSS_1, 50 VDD_1, 51 PB12, 52 PB13, 53 PB14, 54 PB15, 55 PD8, 56 PD9, 57 PD10, 58 PD11, 59 PD12, 60 PD13, 61 PD14, 62 PD15, 63 PC6, 64 PC7, 65 PC8, 66 PC9, 67 PA8, 68 PA9, 69 PA10, 70 PA11, 71 PA12, 72 PA13, 73 NC, 74 VSS_2, 75 VDD_2, 76 PA14, 77 PA15, 78 PC10, 79 PC11, 80 PC12, 81 PD0, 82 PD1, 83 PD2, 84 PD3, 85 PD4, 86 PD5, 87 PD6, 88 PD7, 89 PB3, 90 PB4, 91 PB5, 92 PB6, 93 PB7, 94 BOOT0, 95 PB8, 96 PB9, 97 PE0, 98 PE1, 99 VSS_3, 100 VDD_3

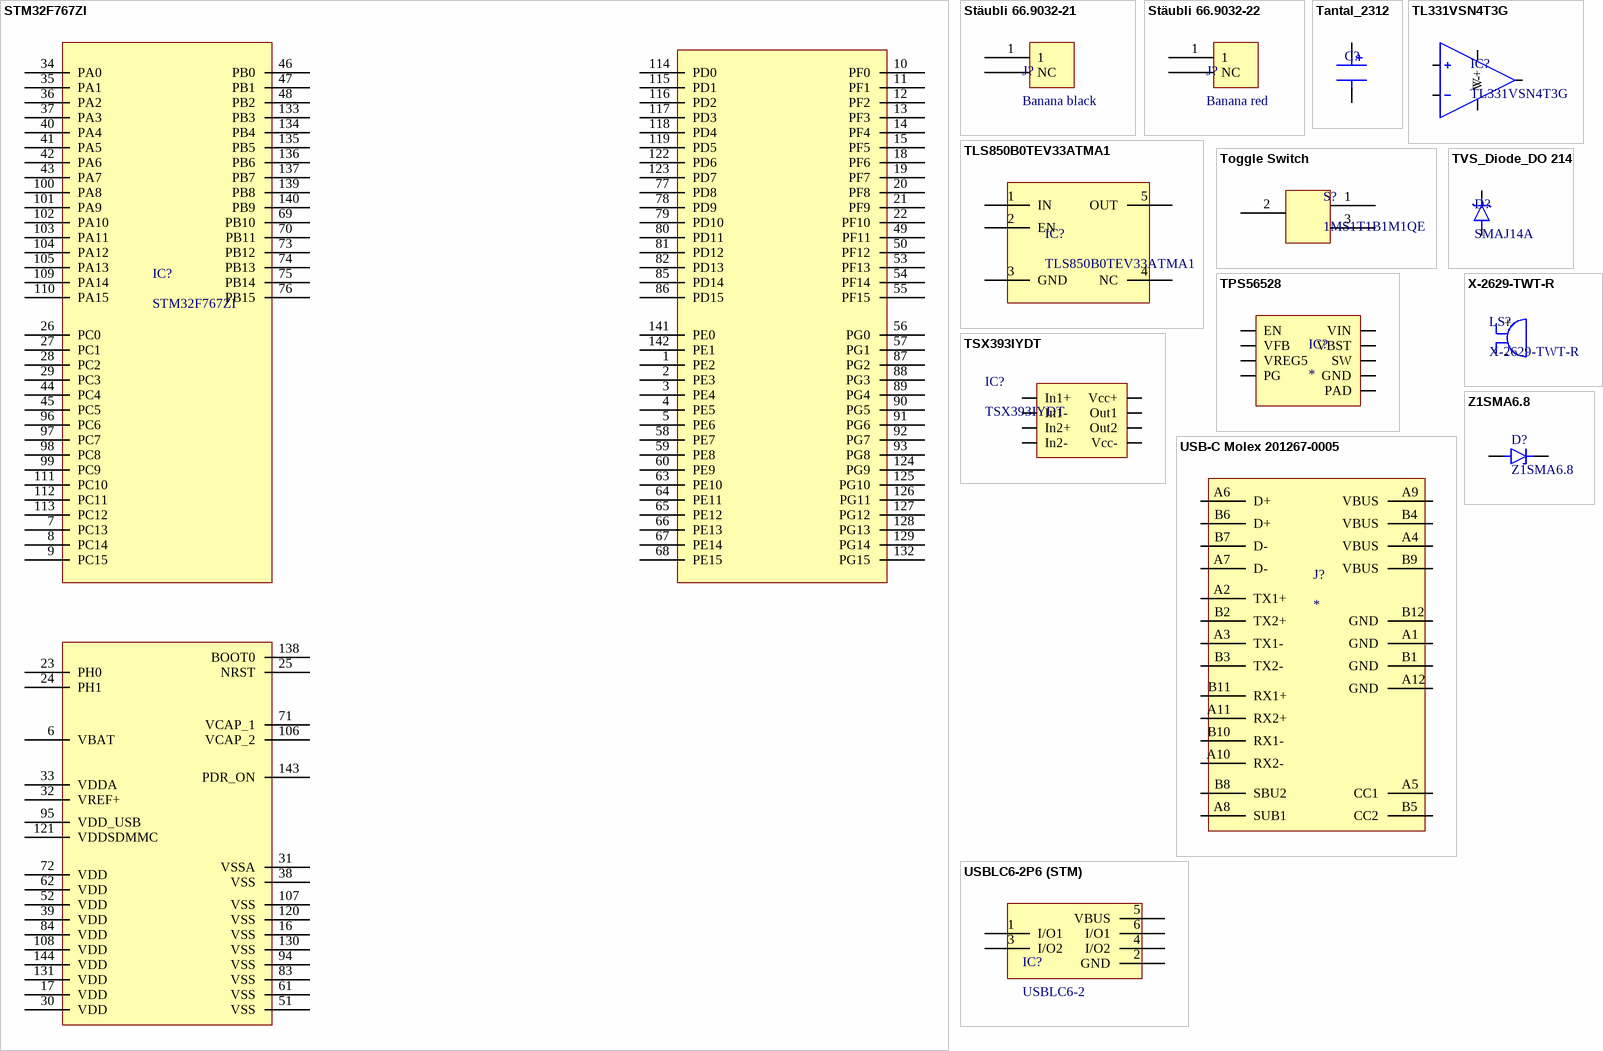
[diagram p4: symbols STM32F767ZI to Z1SMA6.8]

## STM32F767ZI
designator IC?
STM32F767ZI 32-Bit ARM Cortex 7
footprint LQFP144
pins: 1 PE2, 2 PE3, 3 PE4, 4 PE5, 5 PE6, 6 VBAT, 7 PC13, 8 PC14, 9 PC15, 10 PF0, 11 PF1, 12 PF2, 13 PF3, 14 PF4, 15 PF5, 16 VSS, 17 VDD, 18 PF6, 19 PF7, 20 PF8, 21 PF9, 22 PF10, 23 PH0, 24 PH1, 25 NRST, 26 PC0, 27 PC1, 28 PC2, 29 PC3, 30 VDD, 31 VSSA, 32 VREF+, 33 VDDA, 34 PA0, 35 PA1, 36 PA2, 37 PA3, 38 VSS, 39 VDD, 40 PA4, 41 PA5, 42 PA6, 43 PA7, 44 PC4, 45 PC5, 46 PB0, 47 PB1, 48 PB2, 49 PF11, 50 PF12, 51 VSS, 52 VDD, 53 PF13, 54 PF14, 55 PF15, 56 PG0, 57 PG1, 58 PE7, 59 PE8, 60 PE9, 61 VSS, 62 VDD, 63 PE10, 64 PE11, 65 PE12, 66 PE13, 67 PE14, 68 PE15, 69 PB10, 70 PB11, 71 VCAP_1, 72 VDD, 73 PB12, 74 PB13, 75 PB14, 76 PB15, 77 PD8, 78 PD9, 79 PD10, 80 PD11, 81 PD12, 82 PD13, 83 VSS, 84 VDD, 85 PD14, 86 PD15, 87 PG2, 88 PG3, 89 PG4, 90 PG5, 91 PG6, 92 PG7, 93 PG8, 94 VSS, 95 VDD_USB, 96 PC6, 97 PC7, 98 PC8, 99 PC9, 100 PA8, 101 PA9, 102 PA10, 103 PA11, 104 PA12, 105 PA13, 106 VCAP_2, 107 VSS, 108 VDD, 109 PA14, 110 PA15, 111 PC10, 112 PC11, 113 PC12, 114 PD0, 115 PD1, 116 PD2, 117 PD3, 118 PD4, 119 PD5, 120 VSS, 121 VDDSDMMC, 122 PD6, 123 PD7, 124 PG9, 125 PG10, 126 PG11, 127 PG12, 128 PG13, 129 PG14, 130 VSS, 131 VDD, 132 PG15, 133 PB3, 134 PB4, 135 PB5, 136 PB6, 137 PB7, 138 BOOT0, 139 PB8, 140 PB9, 141 PE0, 142 PE1, 143 PDR_ON, 144 VDD

## Stäubli 66.9032-21
designator J?, comment Banana black
Stäubli 66.9032-21 black
footprint Bananenstecker
pins: 1, 2 NC

## Stäubli 66.9032-22
designator J?, comment Banana red
Stäubli 66.9032-22 red
footprint Bananenstecker
pins: 1, 2 NC

## Tantal_2312
designator C?
Polarized Tantal
footprint Tantal 2312
pins: 1, 2

## TL331VSN4T3G
designator IC?
Comparator
footprint SOT23-5; pin to pad 1>4 4>1
pins: 1 OUT, 2 V-, 3 +, 4 -, 5 V+

## TLS850B0TEV33ATMA1
designator IC?
Input 3-40V, Output 3.3V
footprint TO-252-5
pins: 1 IN, 2 EN, 3 GND, 4 NC, 5 OUT

## Toggle Switch
designator S?, comment 1MS1T1B1M1QE
1MS1T1B1M1QE, 2 = COM, ON-ON
footprint Switch 1MS1T1B1M1QE
pins: 1, 2 COM, 3

## TPS56528
designator IC?
Buck Converter
footprint SOIC-8 PowerPad (SOIC, 8-Leads, Body 4,90x3,90mm, Pitch 1,27mm, Thermal Pad 3,10x2,40mm, IPC Medium Density)
pins: 1 EN, 2 VFB, 3 VREG5, 4 PG, 5 VIN, 6 VBST, 7 SW, 8 GND, 9 PAD

## TSX393IYDT
designator IC?
Window Comparator
footprint SOIC-8
pins: 1 Out1, 2 In1-, 3 In1+, 4 Vcc-, 5 In2+, 6 In2-, 7 Out2, 8 Vcc+

## TVS_Diode_DO 214
designator D?, comment SMAJ14A
TVS Diode
footprint DO-214AC
pins: 1, 2

## USB-C Molex 201267-0005
designator J?
footprint USB-C Molex 2012670005
pins: A1 GND, A2 TX1+, A3 TX1-, A4 VBUS, A5 CC1, A6 D+, A7 D-, A8 SUB1, A9 VBUS, A10 RX2-, A11 RX2+, A12 GND, B1 GND, B2 TX2+, B3 TX2-, B4 VBUS, B5 CC2, B6 D+, B7 D-, B8 SBU2, B9 VBUS, B10 RX1-, B11 RX1+, B12 GND

## USBLC6-2P6 (STM)
designator IC?, comment USBLC6-2
ESD-Entstörer
footprint SOT666
pins: 1 I/O1, 2 GND, 3 I/O2, 4 I/O2, 5 VBUS, 6 I/O1

## X-2629-TWT-R
designator LS?
Buzzer
footprint Buzzer Pui Audio
pins: 1 +, 2 -

## Z1SMA6.8
designator D?
Z-Diode 6,8V (Conrad: Z1SMA6.8)
footprint DO-214AC
pins: 1 A, 2 K